# EAGLE library part VN7040ASTR (library VN7040ASTR)
Current Limit SW 1-IN 1-OUT to 34A Automotive 8-Pin SO N T/R Source: Datasheet <https://www.st.com/content/ccc/resource/technical/document/datasheet/5f/e6/42/6c/dc/d9/4c/65/DM00157100.pdf/files/DM00157100.pdf/jcr:content/translations/en.DM00157100.pdf>
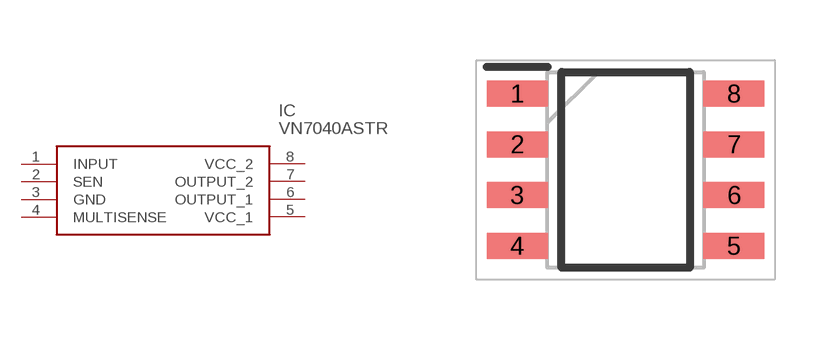
[diagram p0: symbol with the pads of SOIC127P600X175-8N; footprint SOIC127P600X175-8N]

Designator prefix IC

## VN7040ASTR (Description: Current Limit SW 1-IN 1-OUT to 34A Automotive 8-Pin SO N T/R; Height: 1.75mm; Manufacturer_Name: STMicroelectronics; Manufacturer_Part_Number: VN7040ASTR; Mouser_Part_Number: 511-VN7040ASTR; Mouser_Price-Stock: https://www.mouser.co.uk/ProductDetail/STMicroelectronics/VN7040ASTR?qs=N2Tevpb%252BvoafXfmnB0CY5g%3D%3D)  [SOIC127P600X175-8N]
1  INPUT
2  SEN
3  GND
4  MULTISENSE
5  VCC_1
6  OUTPUT_1
7  OUTPUT_2
8  VCC_2

## Footprint SOIC127P600X175-8N (pad centres in mm)
SO_8
smd 1.525 x 0.65: 1 -2.712,1.905; 2 -2.712,0.635; 3 -2.712,-0.635; 4 -2.712,-1.905; 5 2.712,-1.905; 6 2.712,-0.635; 7 2.712,0.635; 8 2.712,1.905